# EAGLE library part TPS61021ADSGR (library Deegou_IC)
3-A Boost Converter with 0.5-V Ultra Low Input Voltage Source: Datasheet <http://www.ti.com/lit/ds/symlink/tps61021a.pdf>
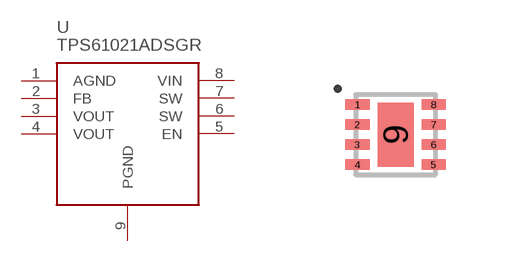
[diagram p38: symbol with the pads of SON50P200X200X80-9N; footprint SON50P200X200X80-9N]

Designator prefix U

## TPS61021ADSGR (ARROW_PART_NUMBER: TPS61021ADSGR; ARROW_PRICE/STOCK: https://www.arrow.com/en/products/tps61021adsgr/texas-instruments; DESCRIPTION: 3-A Boost Converter with 0.5-V Ultra Low Input Voltage; HEIGHT: 0.8mm; MANUFACTURER_NAME: Texas Instruments; MANUFACTURER_PART_NUMBER: TPS61021ADSGR)  [SON50P200X200X80-9N]
1  AGND  pwr
2  FB  in
3  VOUT  pwr
4  VOUT  pwr
5  EN  in
6  SW  pwr
7  SW  pwr
8  VIN  in
9  PGND  pwr

## Footprint SON50P200X200X80-9N (pad centres in mm)
WSON-8 Package
smd 0.61 x 0.27: 1 -0.955,0.75; 2 -0.955,0.25; 3 -0.955,-0.25; 4 -0.955,-0.75; 5 0.955,-0.75; 6 0.955,-0.25; 7 0.955,0.25; 8 0.955,0.75
smd 0.9 x 1.6: 9 0,0